# Altium schematic symbol library jst-eh.SchLib: 9 symbols
Pins are listed as number, name and electrical type; pins without a type are passive.

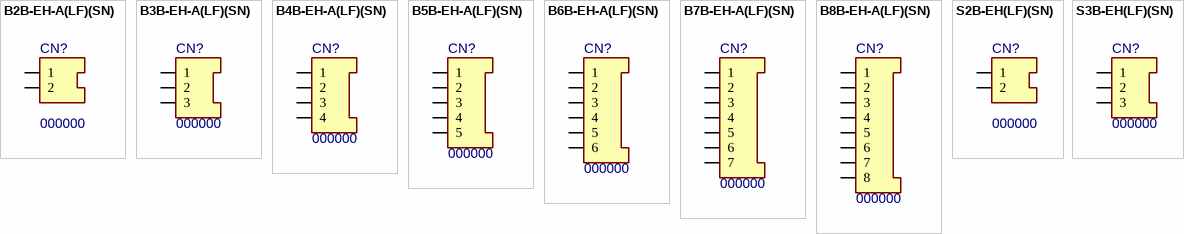
[diagram p0: symbols B2B-EH-A(LF)(SN) to S3B-EH(LF)(SN)]

## B2B-EH-A(LF)(SN)
designator CN?, comment 000000
2 pos, 2.5mm Wire to Board Connector; Value: B2B-EH-A(LF)(SN); MF: JST; PN: 000000; Package: PTH; ExtraInfo: *; MF PN: B2B-EH-A(LF)(SN); Price: 0.08990; Digi-Key PN: 455-1611-ND
footprint B2B-EH-A (2 pos, 2.5mm Wire to Board Connector)
pins: 1, 2

## B3B-EH-A(LF)(SN)
designator CN?, comment 000000
3 pos, 2.5mm Wire to Board Connector, Right Angle; Value: B3B-EH-A(LF)(SN); MF: JST; PN: 000000; Package: PTH; ExtraInfo: *; MF PN: B3B-EH-A(LF)(SN); Price: 0.12200; Digi-Key PN: 455-1612-ND
footprint B3B-EH-A (3 pos, 2.5mm Wire to Board Connector)
pins: 1, 2, 3

## B4B-EH-A(LF)(SN)
designator CN?, comment 000000
4 pos, 2.5mm Wire to Board Connector, Right Angle; Value: B4B-EH-A(LF)(SN); MF: JST; PN: 000000; Package: PTH; ExtraInfo: *; MF PN: B4B-EH-A(LF)(SN); Price: 0.20000; Digi-Key PN: 455-1613-ND
footprint B4B-EH-A (4 pos, 2.5mm Wire to Board Connector)
pins: 1, 2, 3, 4

## B5B-EH-A(LF)(SN)
designator CN?, comment 000000
5 pos, 2.5mm Wire to Board Connector, Right Angle; Value: B5B-EH-A(LF)(SN); MF: JST; PN: 000000; Package: PTH; ExtraInfo: *; MF PN: B5B-EH-A(LF)(SN); Price: ?; Digi-Key PN: ?
footprint B5B-EH-A (5 pos, 2.5mm Wire to Board Connector)
pins: 1, 2, 3, 4, 5

## B6B-EH-A(LF)(SN)
designator CN?, comment 000000
6 pos, 2.5mm Wire to Board Connector, Right Angle; Value: B6B-EH-A(LF)(SN); MF: JST; PN: 000000; Package: PTH; ExtraInfo: *; MF PN: B6B-EH-A(LF)(SN); Price: ?; Digi-Key PN: ?
footprint B6B-EH-A (6 pos, 2.5mm Wire to Board Connector)
pins: 1, 2, 3, 4, 5, 6

## B7B-EH-A(LF)(SN)
designator CN?, comment 000000
7 pos, 2.5mm Wire to Board Connector, Right Angle; Value: B7B-EH-A(LF)(SN); MF: JST; PN: 000000; Package: PTH; ExtraInfo: *; MF PN: B7B-EH-A(LF)(SN); Price: ?; Digi-Key PN: ?
footprint B7B-EH-A (7 pos, 2.5mm Wire to Board Connector)
pins: 1, 2, 3, 4, 5, 6, 7

## B8B-EH-A(LF)(SN)
designator CN?, comment 000000
8 pos, 2.5mm Wire to Board Connector, Right Angle; Value: B8B-EH-A(LF)(SN); MF: JST; PN: 000000; Package: PTH; ExtraInfo: *; MF PN: B8B-EH-A(LF)(SN); Price: ?; Digi-Key PN: ?
footprint B8B-EH-A (8 pos, 2.5mm Wire to Board Connector)
pins: 1, 2, 3, 4, 5, 6, 7, 8

## S2B-EH(LF)(SN)
designator CN?, comment 000000
2 pos, 2.5mm Wire to Board Connector, Right Angle; Value: S2B-EH(LF)(SN); MF: JST; PN: 000000; Package: PTH; ExtraInfo: *; MF PN: S2B-EH(LF)(SN); Price: 0.10734; Digi-Key PN: 455-1625-ND
pins: 1, 2

## S3B-EH(LF)(SN)
designator CN?, comment 000000
3 pos, 2.5mm Wire to Board Connector, Right Angle; Value: S3B-EH(LF)(SN); MF: JST; PN: 000000; Package: PTH; ExtraInfo: *; MF PN: S3B-EH(LF)(SN); Price: 0.12844; Digi-Key PN: 455-1626-ND
pins: 1, 2, 3